# Altium footprint library Diodes.PcbLib: 36 footprints (part 2 of 3)
Each footprint in its own frame and in the unit in brackets; x right, y up, seen from the top. Pads: shape width x height; smd on the part's side, far side on the other; paste and mask are expansions set on the pad; w line width, h text height; cw(c..) or ccw(c..) is an arc to the next point about the centre after c.
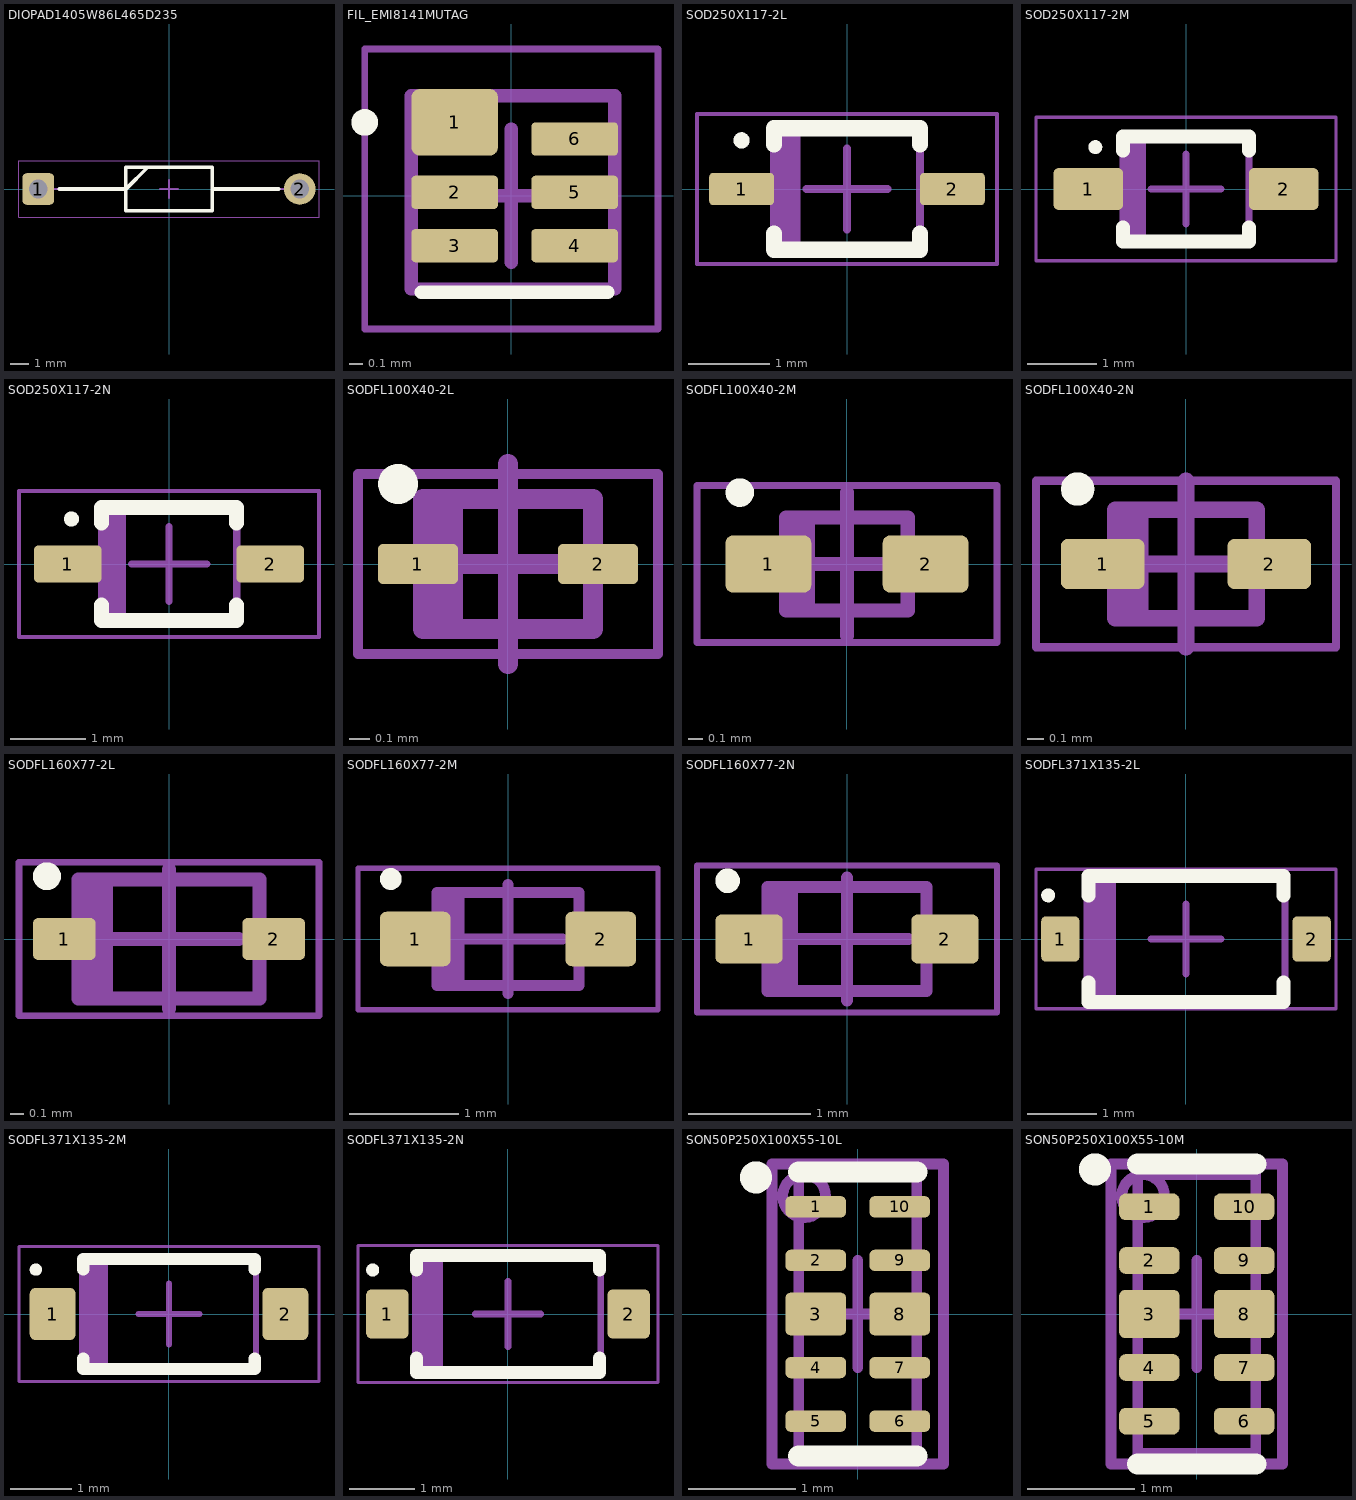
[diagram p1: the footprints below, top view; thin cyan lines are the x and y axes]

## DIOPAD1405W86L465D235 [mm] "Diode, Polarized Axial Diameter; Lead Spacing 14.05mm, Lead Width 0.86mm, Body Length 4.65mm, Body Diameter 2.35mm"
height 2.7
pads (2):
  rrect25% 1.7x1.7 hole 1 paste-1000 mask+0.05: 1(-7.05,0)
  round 1.7 hole 1 paste-1000 mask+0.05: 2(7.05,0)
Top Overlay:
  lines w0.2: -5.912,0 -2.325,0 -1.15,1.175 ; 2.325,0 5.912,0 ; -2.325,-1.175 -2.325,1.175 2.325,1.175 2.325,-1.175 -2.325,-1.175
Top Component Outline:
  lines w0.1: -7.05,0 -2.325,0 ; 2.325,0 7.05,0 ; -2.325,-1.175 -2.325,1.175 2.325,1.175 2.325,-1.175 -2.325,-1.175
Top Courtyard:
  lines w0.05: -8.088,-1.525 -8.088,1.525 8.087,1.525 8.087,-1.525 -8.088,-1.525
Top Component Center:
  lines w0.1: -0.5,0 0.5,0 ; 0,-0.5 0,0.5
Top Designator:
  text ".Designator" at -4.04,-0.476 h2
Top Assembly:
  lines w0.1: -7.05,0 -2.325,0 -1.15,1.175 ; 2.325,0 7.05,0 ; -2.325,-1.175 -2.325,1.175 2.325,1.175 2.325,-1.175 -2.325,-1.175
  text ".Designator" at -4.04,-0.476 h2
3D body "DIOPAD1405W65L465D235.step": height 2.7, standoff -2.7, extent -7.48,-1.34 7.43,1.34

## FIL_EMI8141MUTAG [mm] "2 Line Common Mode Choke Surface Mount 100mA DCR 6Ohm (Typ)"
height 0.6
pads (6):
  rrect25% 0.65x0.5 smd paste+0 mask+0.05: 1(-0.425,0.55)
  rrect25% 0.65x0.25 smd paste+0 mask+0.05: 2(-0.425,0.025) 3(-0.425,-0.375) 4(0.475,-0.375) 5(0.475,0.025) 6(0.475,0.425)
Top Overlay:
  lines w0.1: -0.675,-0.725 0.725,-0.725 ; -1.1,0.5 ccw(c-1.1,0.55) -1.1,0.6 ccw(c-1.1,0.55) -1.1,0.5
Top Component Outline:
  lines w0.1: -0.75,-0.7 0.775,-0.7 0.775,0.75 -0.75,0.75 -0.75,-0.7
Top Courtyard:
  lines w0.05: -1.1,-1 1.1,-1 1.1,1.1 -1.1,1.1 -1.1,-1
Top Component Center:
  lines w0.1: -0.5,0 0.5,0 ; 0,-0.5 0,0.5
Top Designator:
  text ".Designator" at -4.04,-0.476 h2
Top Assembly:
  circle w0.1: c-0.5,0.5 r0.1
  lines w0.1: -0.75,-0.7 -0.75,0.75 0.775,0.75 0.775,-0.7 -0.75,-0.7
  text ".Designator" at -4.04,-0.476 h2
3D body "FIL_EMI8141MUTAG.step": height 0.6, standoff 0, extent -0.725,-0.675 0.775,0.75

## SOD250X117-2L [mm] "SOD, 2-Leads, Body 1.28x2.50mm, IPC High Density"
height 1.17
pads (2):
  rrect25% 0.8x0.4 smd paste+0 mask+0.05: 1(-1.3,0) 2(1.3,0)
Top Overlay:
  circle w0.1: c-1.3,0.6 r0.05
  lines w0.2: -0.9,-0.55 -0.9,-0.75 0.9,-0.75 0.9,-0.55 ; -0.9,0.55 -0.9,0.75 0.9,0.75 0.9,0.55
Top Component Outline:
  lines w0.1: -0.9,-0.725 -0.9,0.725 0.9,0.725 0.9,-0.725 -0.9,-0.725
Top Courtyard:
  lines w0.05: -1.85,-0.925 -1.85,0.925 1.85,0.925 1.85,-0.925 -1.85,-0.925
Top Component Center:
  lines w0.1: -0.5,0 0.5,0 ; 0,-0.5 0,0.5
Top Designator:
  text ".Designator" at -4.04,-0.476 h2
Top Assembly:
  region: -0.9,0.725 -0.575,0.725 -0.575,-0.725 -0.9,-0.725
  lines w0.1: -0.9,-0.725 -0.9,0.725 0.9,0.725 0.9,-0.725 -0.9,-0.725
3D body "STM_BAT60JFILM.step": height 1.15, standoff 0, extent -1.346,-0.724 1.346,0.724

## SOD250X117-2M [mm] "SOD, 2-Leads, Body 1.28x2.50mm, IPC Low Density"
height 1.17
pads (2):
  rrect25% 1x0.6 smd paste+0 mask+0.05: 1(-1.4,0) 2(1.4,0)
Top Overlay:
  circle w0.1: c-1.3,0.6 r0.05
  lines w0.2: -0.9,-0.55 -0.9,-0.75 0.9,-0.75 0.9,-0.55 ; -0.9,0.55 -0.9,0.75 0.9,0.75 0.9,0.55
Top Component Outline:
  lines w0.1: -0.9,-0.725 0.9,-0.725 0.9,0.725 -0.9,0.725 -0.9,-0.725
Top Courtyard:
  lines w0.05: -2.15,-1.025 2.15,-1.025 2.15,1.025 -2.15,1.025 -2.15,-1.025
Top Component Center:
  lines w0.1: -0.5,0 0.5,0 ; 0,-0.5 0,0.5
Top Designator:
  text ".Designator" at -4.04,-0.476 h2
Top Assembly:
  region: -0.9,0.725 -0.575,0.725 -0.575,-0.725 -0.9,-0.725
  lines w0.1: -0.9,-0.725 0.9,-0.725 0.9,0.725 -0.9,0.725 -0.9,-0.725
3D body "STM_BAT60JFILM.step": height 1.15, standoff 0, extent -1.346,-0.724 1.346,0.724

## SOD250X117-2N [mm] "SOD, 2-Leads, Body 1.28x2.50mm, IPC Medium Density"
height 1.17
pads (2):
  rrect25% 0.9x0.5 smd paste+0 mask+0.05: 1(-1.35,0) 2(1.35,0)
Top Overlay:
  circle w0.1: c-1.3,0.6 r0.05
  lines w0.2: -0.9,-0.55 -0.9,-0.75 0.9,-0.75 0.9,-0.55 ; -0.9,0.55 -0.9,0.75 0.9,0.75 0.9,0.55
Top Component Outline:
  lines w0.1: -0.9,-0.725 0.9,-0.725 0.9,0.725 -0.9,0.725 -0.9,-0.725
Top Courtyard:
  lines w0.05: -2,-0.975 2,-0.975 2,0.975 -2,0.975 -2,-0.975
Top Component Center:
  lines w0.1: -0.5,0 0.5,0 ; 0,-0.5 0,0.5
Top Designator:
  text ".Designator" at -4.04,-0.476 h2
Top Assembly:
  region: -0.9,0.725 -0.575,0.725 -0.575,-0.725 -0.9,-0.725
  lines w0.1: -0.9,-0.725 0.9,-0.725 0.9,0.725 -0.9,0.725 -0.9,-0.725
3D body "STM_BAT60JFILM.step": height 1.15, standoff 0, extent -1.346,-0.724 1.346,0.724

## SODFL100X40-2L [mm] "SODFL, 2-Leads, Body 0.60x1.00mm, IPC High Density"
height 0.4
pads (2):
  rrect25% 0.4x0.2 smd paste+0 mask+0.05: 1(-0.45,0) 2(0.45,0)
Top Overlay:
  circle w0.1: c-0.55,0.4 r0.05
Top Component Outline:
  lines w0.1: -0.425,-0.325 -0.425,0.325 0.425,0.325 0.425,-0.325 -0.425,-0.325
Top Courtyard:
  lines w0.05: -0.75,-0.45 -0.75,0.45 0.75,0.45 0.75,-0.45 -0.75,-0.45
Top Component Center:
  lines w0.1: -0.5,0 0.5,0 ; 0,-0.5 0,0.5
Top Designator:
  text ".Designator" at -4.04,-0.476 h2
Top Assembly:
  rectangle: -0.45,-0.341 -0.225,0.325
  lines w0.1: -0.425,-0.325 -0.425,0.325 0.425,0.325 0.425,-0.325 -0.425,-0.325
  text ".Designator" at -4.04,-0.476 h2
3D body "SODFL100X40-2.step": height 0.4, standoff 0, extent -0.5,-0.325 0.5,0.325

## SODFL100X40-2M [mm] "SODFL, 2-Leads, Body 0.60x1.00mm, IPC Low Density"
height 0.4
pads (2):
  rrect25% 0.6x0.4 smd paste+0 mask+0.05: 1(-0.55,0) 2(0.55,0)
Top Overlay:
  circle w0.1: c-0.75,0.5 r0.05
Top Component Outline:
  lines w0.1: -0.425,-0.325 -0.425,0.325 0.425,0.325 0.425,-0.325 -0.425,-0.325
Top Courtyard:
  lines w0.05: -1.05,-0.55 1.05,-0.55 1.05,0.55 -1.05,0.55 -1.05,-0.55
Top Component Center:
  lines w0.1: -0.5,0 0.5,0 ; 0,-0.5 0,0.5
Top Designator:
  text ".Designator" at -4.04,-0.476 h2
Top Assembly:
  rectangle: -0.45,-0.341 -0.225,0.325
  lines w0.1: -0.425,-0.325 0.425,-0.325 0.425,0.325 -0.425,0.325 -0.425,-0.325
  text ".Designator" at -4.04,-0.476 h2
3D body "SODFL100X40-2.step": height 0.4, standoff 0, extent -0.5,-0.325 0.5,0.325

## SODFL100X40-2N [mm] "SODFL, 2-Leads, Body 0.60x1.00mm, IPC Medium Density"
height 0.4
pads (2):
  rrect25% 0.5x0.3 smd paste+0 mask+0.05: 1(-0.5,0) 2(0.5,0)
Top Overlay:
  circle w0.1: c-0.65,0.45 r0.05
Top Component Outline:
  lines w0.1: -0.425,-0.325 0.425,-0.325 0.425,0.325 -0.425,0.325 -0.425,-0.325
Top Courtyard:
  lines w0.05: -0.9,-0.5 0.9,-0.5 0.9,0.5 -0.9,0.5 -0.9,-0.5
Top Component Center:
  lines w0.1: -0.5,0 0.5,0 ; 0,-0.5 0,0.5
Top Designator:
  text ".Designator" at -4.04,-0.476 h2
Top Assembly:
  rectangle: -0.45,-0.341 -0.225,0.325
  lines w0.1: -0.425,-0.325 0.425,-0.325 0.425,0.325 -0.425,0.325 -0.425,-0.325
  text ".Designator" at -4.04,-0.476 h2
3D body "SODFL100X40-2.step": height 0.4, standoff 0, extent -0.5,-0.325 0.5,0.325

## SODFL160X77-2L [mm] "SODFL, 2-Leads, Body 0.80x1.60mm, IPC High Density"
height 0.77
pads (2):
  rrect25% 0.45x0.3 smd paste+0 mask+0.05: 1(-0.75,0) 2(0.75,0)
Top Overlay:
  circle w0.1: c-0.875,0.45 r0.05
Top Component Outline:
  lines w0.1: -0.65,-0.425 -0.65,0.425 0.65,0.425 0.65,-0.425 -0.65,-0.425
Top Courtyard:
  lines w0.05: -1.075,-0.55 -1.075,0.55 1.075,0.55 1.075,-0.55 -1.075,-0.55
Top Component Center:
  lines w0.1: -0.5,0 0.5,0 ; 0,-0.5 0,0.5
Top Designator:
  text ".Designator" at -4.04,-0.476 h2
Top Assembly:
  rectangle: -0.65,-0.4 -0.4,0.425
  lines w0.1: -0.65,-0.425 -0.65,0.425 0.65,0.425 0.65,-0.425 -0.65,-0.425
  text ".Designator" at -4.04,-0.476 h2
3D body "SODFL160X77-2.step": height 0.77, standoff 0, extent -0.8,-0.425 0.8,0.425

## SODFL160X77-2M [mm] "SODFL, 2-Leads, Body 0.80x1.60mm, IPC Low Density"
height 0.77
pads (2):
  rrect25% 0.65x0.5 smd paste+0 mask+0.05: 1(-0.85,0) 2(0.85,0)
Top Overlay:
  circle w0.1: c-1.075,0.55 r0.05
Top Component Outline:
  lines w0.1: -0.65,-0.425 -0.65,0.425 0.65,0.425 0.65,-0.425 -0.65,-0.425
Top Courtyard:
  lines w0.05: -1.375,-0.65 -1.375,0.65 1.375,0.65 1.375,-0.65 -1.375,-0.65
Top Component Center:
  lines w0.1: -0.5,0 0.5,0 ; 0,-0.5 0,0.5
Top Designator:
  text ".Designator" at -4.04,-0.476 h2
Top Assembly:
  rectangle: -0.65,-0.4 -0.4,0.425
  lines w0.1: -0.65,-0.425 -0.65,0.425 0.65,0.425 0.65,-0.425 -0.65,-0.425
  text ".Designator" at -4.04,-0.476 h2
3D body "SODFL160X77-2.step": height 0.77, standoff 0, extent -0.8,-0.425 0.8,0.425

## SODFL160X77-2N [mm] "SODFL, 2-Leads, Body 0.80x1.60mm, IPC Medium Density"
height 0.77
pads (2):
  rrect25% 0.55x0.4 smd paste+0 mask+0.05: 1(-0.8,0) 2(0.8,0)
Top Overlay:
  circle w0.1: c-0.975,0.475 r0.05
Top Component Outline:
  lines w0.1: -0.65,-0.425 -0.65,0.425 0.65,0.425 0.65,-0.425 -0.65,-0.425
Top Courtyard:
  lines w0.05: -1.225,-0.6 -1.225,0.6 1.225,0.6 1.225,-0.6 -1.225,-0.6
Top Component Center:
  lines w0.1: -0.5,0 0.5,0 ; 0,-0.5 0,0.5
Top Designator:
  text ".Designator" at -4.04,-0.476 h2
Top Assembly:
  rectangle: -0.65,-0.4 -0.4,0.425
  lines w0.1: -0.65,-0.425 -0.65,0.425 0.65,0.425 0.65,-0.425 -0.65,-0.425
  text ".Designator" at -4.04,-0.476 h2
3D body "SODFL160X77-2.step": height 0.77, standoff 0, extent -0.8,-0.425 0.8,0.425

## SODFL371X135-2L [mm] "SODFL, 2-Leads, Body 1.60x3.71mm, IPC High Density"
height 1.35
pads (2):
  rrect25% 0.55x0.65 smd paste+0 mask+0.05: 1(-1.8,0) 2(1.8,0)
Top Overlay:
  circle w0.1: c-1.975,0.625 r0.05
  lines w0.2: -1.4,-0.625 -1.4,-0.9 1.4,-0.9 1.4,-0.625 ; -1.4,0.625 -1.4,0.9 1.4,0.9 1.4,0.625
Top Component Outline:
  lines w0.1: -1.42,-0.9 1.42,-0.9 1.42,0.9 -1.42,0.9 -1.42,-0.9
Top Courtyard:
  lines w0.05: -2.15,-1 -2.15,1 2.15,1 2.15,-1 -2.15,-1
Top Component Center:
  lines w0.1: -0.5,0 0.5,0 ; 0,-0.5 0,0.5
Top Designator:
  text ".Designator" at -4.04,-0.476 h2
Top Assembly:
  rectangle: -1.42,-0.9 -1,0.9
  lines w0.1: -1.42,-0.9 1.42,-0.9 1.42,0.9 -1.42,0.9 -1.42,-0.9
  text ".Designator" at -4.04,-0.476 h2
3D body "SODFL371X135-2.step": height 1.15, standoff 0, extent -1.85,-0.8 1.85,0.8

## SODFL371X135-2M [mm] "SODFL, 2-Leads, Body 1.60x3.71mm, IPC Low Density"
height 1.35
pads (2):
  rrect25% 0.75x0.85 smd paste+0 mask+0.05: 1(-1.9,0) 2(1.9,0)
Top Overlay:
  circle w0.1: c-2.175,0.725 r0.05
  lines w0.2: -1.4,-0.725 -1.4,-0.9 1.4,-0.9 1.4,-0.725 ; -1.4,0.725 -1.4,0.9 1.4,0.9 1.4,0.725
Top Component Outline:
  lines w0.1: -1.42,-0.9 -1.42,0.9 1.42,0.9 1.42,-0.9 -1.42,-0.9
Top Courtyard:
  lines w0.05: -2.45,-1.1 -2.45,1.1 2.45,1.1 2.45,-1.1 -2.45,-1.1
Top Component Center:
  lines w0.1: -0.5,0 0.5,0 ; 0,-0.5 0,0.5
Top Designator:
  text ".Designator" at -4.04,-0.476 h2
Top Assembly:
  rectangle: -1.42,-0.9 -1,0.9
  lines w0.1: -1.42,-0.9 -1.42,0.9 1.42,0.9 1.42,-0.9 -1.42,-0.9
  text ".Designator" at -4.04,-0.476 h2
3D body "SODFL371X135-2.step": height 1.15, standoff 0, extent -1.85,-0.8 1.85,0.8

## SODFL371X135-2N [mm] "SODFL, 2-Leads, Body 1.60x3.71mm, IPC Medium Density"
height 1.35
pads (2):
  rrect25% 0.65x0.75 smd paste+0 mask+0.05: 1(-1.85,0) 2(1.85,0)
Top Overlay:
  circle w0.1: c-2.075,0.675 r0.05
  lines w0.2: -1.4,-0.675 -1.4,-0.9 1.4,-0.9 1.4,-0.675 ; -1.4,0.675 -1.4,0.9 1.4,0.9 1.4,0.675
Top Component Outline:
  lines w0.1: -1.42,-0.9 -1.42,0.9 1.42,0.9 1.42,-0.9 -1.42,-0.9
Top Courtyard:
  lines w0.05: -2.3,-1.05 2.3,-1.05 2.3,1.05 -2.3,1.05 -2.3,-1.05
Top Component Center:
  lines w0.1: -0.5,0 0.5,0 ; 0,-0.5 0,0.5
Top Designator:
  text ".Designator" at -4.04,-0.476 h2
Top Assembly:
  rectangle: -1.42,-0.9 -1,0.9
  lines w0.1: -1.42,-0.9 -1.42,0.9 1.42,0.9 1.42,-0.9 -1.42,-0.9
  text ".Designator" at -4.04,-0.476 h2
3D body "SODFL371X135-2.step": height 1.15, standoff 0, extent -1.85,-0.8 1.85,0.8

## SON50P250X100X55-10L [mm] "SON, 10-Leads, Body 2.50x1.00mm, Pitch 0.50mm, IPC High Density"
height 0.551
pads (10):
  rrect50% 0.565x0.2 smd paste+0 mask+0.05: 1(-0.392,1) 2(-0.392,0.5) 4(-0.392,-0.5) 5(-0.392,-1) 6(0.392,-1) 7(0.392,-0.5) 9(0.392,0.5) 10(0.392,1)
  rrect25% 0.565x0.4 smd paste+0 mask+0.05: 3(-0.392,0) 8(0.392,0)
Top Overlay:
  circle w0.2: c-0.95,1.275 r0.05
  lines w0.2: -0.55,-1.325 0.55,-1.325 ; -0.55,1.325 0.55,1.325
Top Paste:
  region: -0.65,-0.18 -0.66,-0.18 -0.678,-0.172 -0.692,-0.158 -0.7,-0.14 -0.7,-0.13 -0.7,0.13 -0.7,0.14 -0.692,0.158 -0.678,0.172 -0.66,0.18 -0.65,0.18 -0.185,0.18 -0.175,0.18 -0.157,0.172 -0.143,0.158 -0.135,0.14 -0.135,0.13 -0.135,-0.13 -0.135,-0.14 -0.143,-0.158 -0.157,-0.172 -0.175,-0.18 -0.185,-0.18
  region: 0.7,0.13 0.7,-0.13 0.7,-0.14 0.692,-0.158 0.678,-0.172 0.66,-0.18 0.65,-0.18 0.185,-0.18 0.175,-0.18 0.157,-0.172 0.143,-0.158 0.135,-0.14 0.135,-0.13 0.135,0.13 0.135,0.14 0.143,0.158 0.157,0.172 0.175,0.18 0.185,0.18 0.65,0.18 0.66,0.18 0.678,0.172 0.692,0.158 0.7,0.14
Top Component Outline:
  lines w0.1: -0.55,-1.3 -0.55,1.3 0.55,1.3 0.55,-1.3 -0.55,-1.3
Top Courtyard:
  lines w0.05: -0.8,-1.4 0.8,-1.4 0.8,1.4 -0.8,1.4 -0.8,-1.4
Top Component Center:
  lines w0.1: -0.5,0 0.5,0 ; 0,-0.5 0,0.5
Top Designator:
  text ".Designator" at -4.04,-0.476 h2
Top Assembly:
  circle w0.1: c-0.5,1.1 r0.2
  lines w0.1: -0.8,-1.4 0.8,-1.4 0.8,1.4 -0.8,1.4 -0.8,-1.4 ; -0.2,1.4 -0.2,1.4
  text ".Designator" at -4.04,-0.476 h2
3D body "TEXAS_SON50P250X100X55-10.step": height 0.55, standoff 0, extent -0.501,-1.25 0.501,1.25

## SON50P250X100X55-10M [mm] "SON, 10-Leads, Body 2.50x1.00mm, Pitch 0.50mm, IPC Low Density"
height 0.551
pads (10):
  rrect50% 0.565x0.25 smd paste+0 mask+0.05: 1(-0.442,1) 2(-0.442,0.5) 4(-0.442,-0.5) 5(-0.442,-1) 6(0.442,-1) 7(0.442,-0.5) 9(0.442,0.5) 10(0.442,1)
  rrect25% 0.565x0.45 smd paste+0 mask+0.05: 3(-0.442,0) 8(0.442,0)
Top Overlay:
  circle w0.2: c-0.95,1.35 r0.05
  lines w0.2: -0.55,-1.4 0.55,-1.4 ; -0.55,1.4 0.55,1.4
Top Paste:
  region: -0.65,-0.18 -0.66,-0.18 -0.678,-0.172 -0.692,-0.158 -0.7,-0.14 -0.7,-0.13 -0.7,0.13 -0.7,0.14 -0.692,0.158 -0.678,0.172 -0.66,0.18 -0.65,0.18 -0.185,0.18 -0.175,0.18 -0.157,0.172 -0.143,0.158 -0.135,0.14 -0.135,0.13 -0.135,-0.13 -0.135,-0.14 -0.143,-0.158 -0.157,-0.172 -0.175,-0.18 -0.185,-0.18
  region: 0.7,0.13 0.7,-0.13 0.7,-0.14 0.692,-0.158 0.678,-0.172 0.66,-0.18 0.65,-0.18 0.185,-0.18 0.175,-0.18 0.157,-0.172 0.143,-0.158 0.135,-0.14 0.135,-0.13 0.135,0.13 0.135,0.14 0.143,0.158 0.157,0.172 0.175,0.18 0.185,0.18 0.65,0.18 0.66,0.18 0.678,0.172 0.692,0.158 0.7,0.14
Top Component Outline:
  lines w0.1: -0.55,-1.3 -0.55,1.3 0.55,1.3 0.55,-1.3 -0.55,-1.3
Top Courtyard:
  lines w0.05: -0.8,-1.4 0.8,-1.4 0.8,1.4 -0.8,1.4 -0.8,-1.4
Top Component Center:
  lines w0.1: -0.5,0 0.5,0 ; 0,-0.5 0,0.5
Top Designator:
  text ".Designator" at -4.04,-0.476 h2
Top Assembly:
  circle w0.1: c-0.5,1.1 r0.2
  lines w0.1: -0.8,-1.4 0.8,-1.4 0.8,1.4 -0.8,1.4 -0.8,-1.4 ; -0.2,1.4 -0.2,1.4
  text ".Designator" at -4.04,-0.476 h2
3D body "TEXAS_SON50P250X100X55-10.step": height 0.55, standoff 0, extent -0.501,-1.25 0.501,1.25